# Altium schematic symbol library RC0603FR-0710RL.SchLib: 1 symbol
Pins are listed as number, name and electrical type; pins without a type are passive.

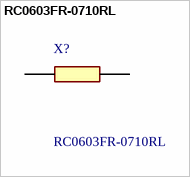
[diagram p0: symbol RC0603FR-0710RL]

## RC0603FR-0710RL
designator X?
GENERAL PURPOSE CHIP RESISTORS RC_L series +/-0.1%, +/-0.5%, +/-1%, +/-5%; Manufacturer_Name: Yageo Group; Geometry.Height: 0.55mm; Mouser Part Number: 603-RC0603FR-0710RL; Mouser Price/Stock: https://www.mouser.co.uk/ProductDetail/YAGEO/RC0603FR-0710RL?qs=womCuNp6NjhtCUybQ%252B6d6w%3D%3D; Manufacturer_Part_Number: RC0603FR-0710RL; Datasheet Link: https://www.yageo.com/upload/media/product/productsearch/datasheet/rchip/PYu-RC_Group_51_RoHS_L_11.pdf
footprint RESC1608X55N
pins: 1, 2